# EAGLE library part ATLAS_ISOLATOR (library AtlasScientific)
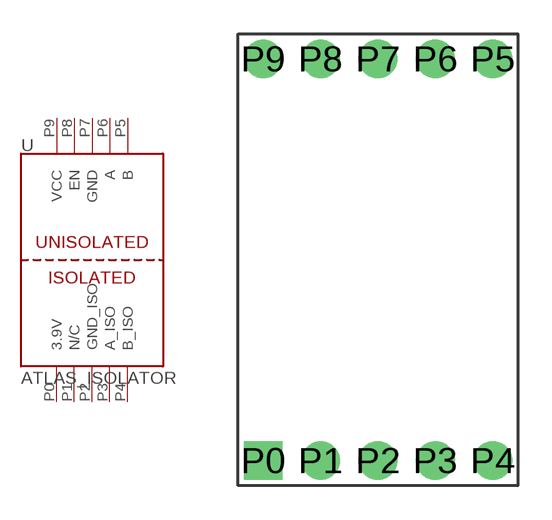
[diagram p2: symbol with the pads of ATLAS_ISOLATOR; footprint ATLAS_ISOLATOR]

Designator prefix -

## ATLAS_ISOLATOR  [ATLAS_ISOLATOR]
P0  3.9V
P1  N/C
P2  GND_ISO
P3  A_ISO
P4  B_ISO
P5  B
P6  A
P7  GND
P8  EN
P9  VCC

## Footprint ATLAS_ISOLATOR (pad centres in mm)
drill 1.143 square: P0 -5.08,-8.89
drill 1.143: P1 -2.54,-8.89; P2 0,-8.89; P3 2.54,-8.89; P4 5.08,-8.89; P5 5.08,8.89; P6 2.54,8.89; P7 0,8.89; P8 -2.54,8.89; P9 -5.08,8.89